# Altium schematic symbol library Project_Vega.SchLib: 63 symbols (part 1 of 2)
Pins are listed as number, name and electrical type; pins without a type are passive.

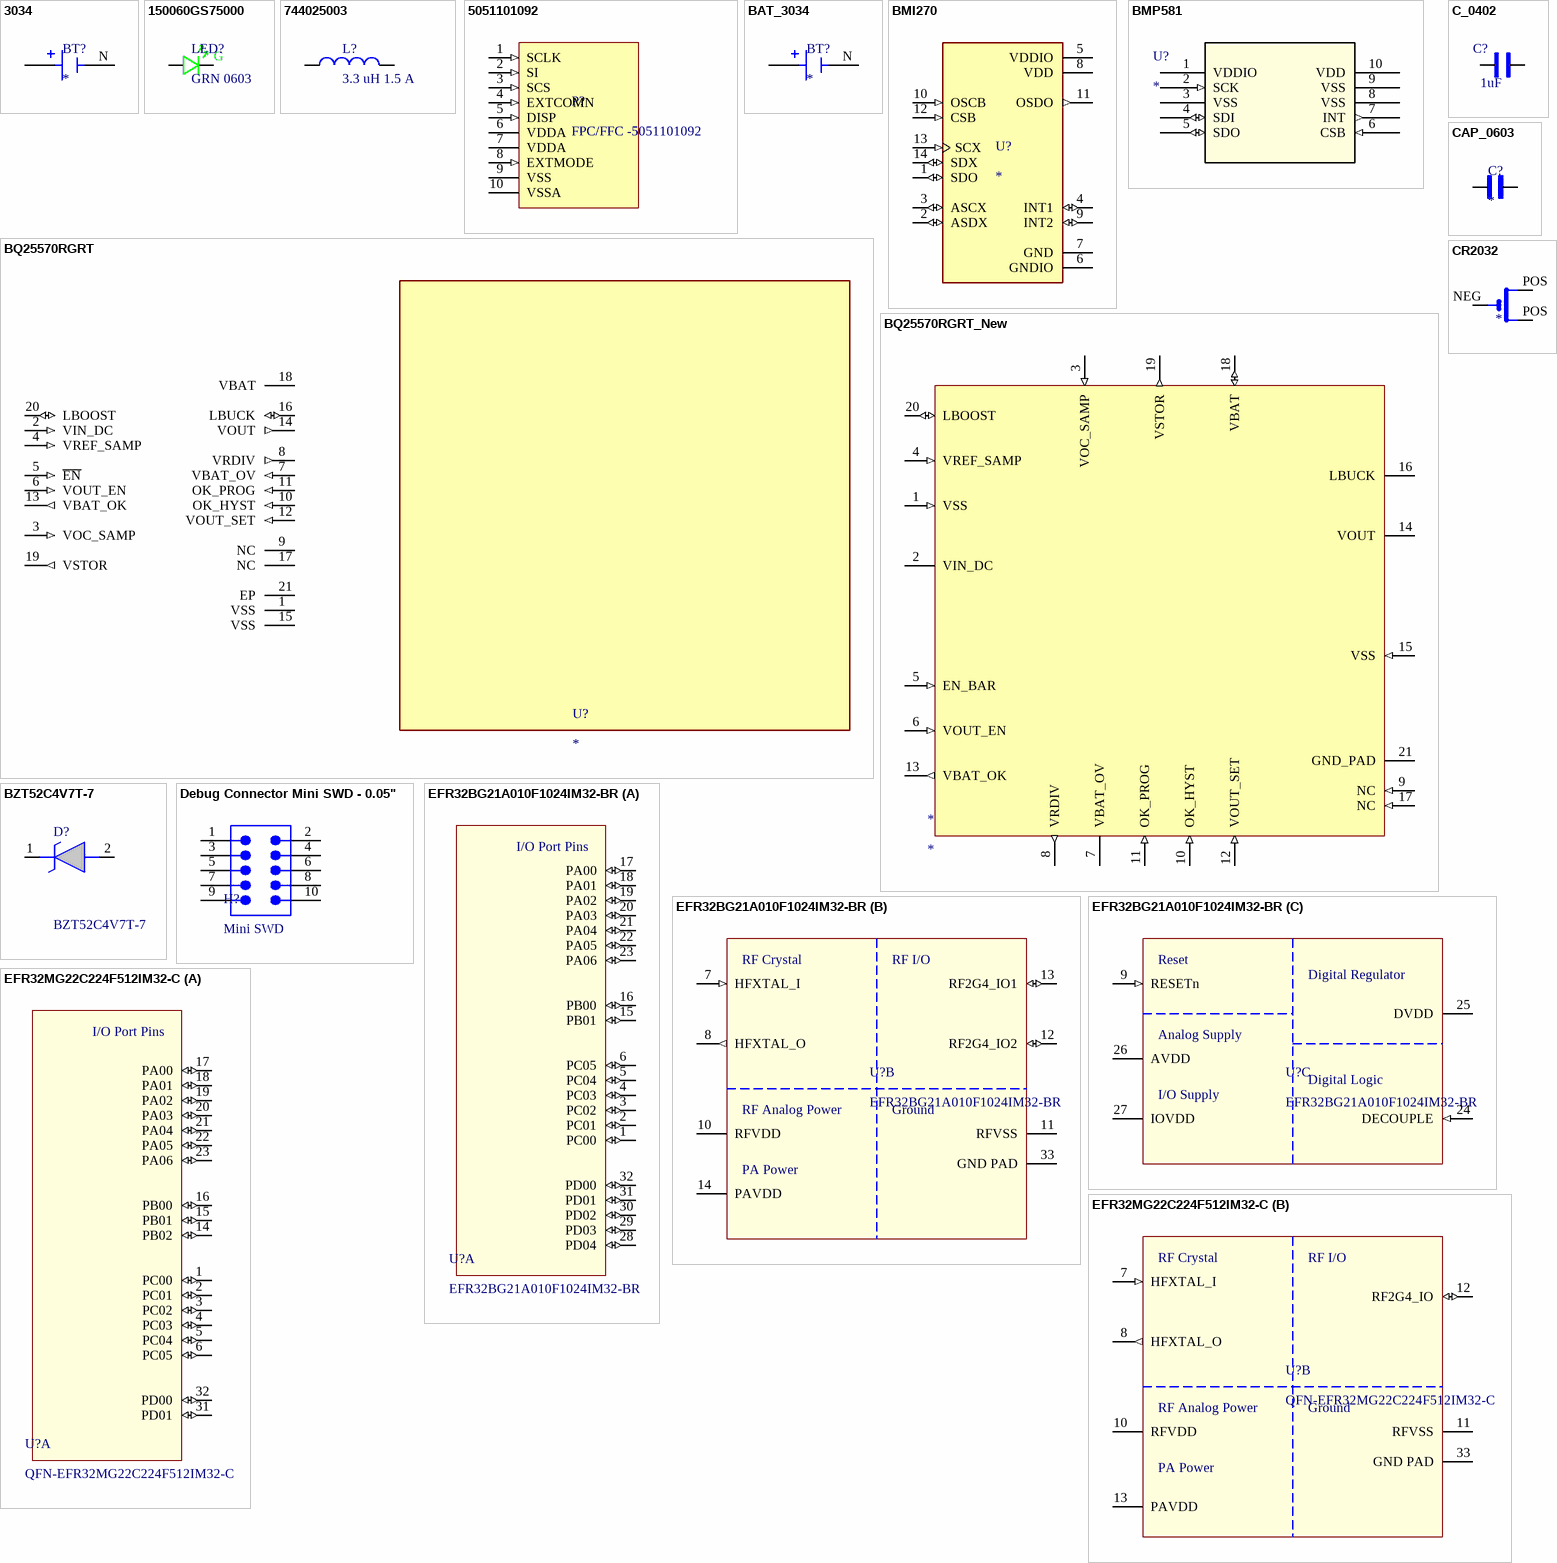
[diagram p0: symbols 3034 to EFR32MG22C224F512IM32-C]

## 3034
designator BT?
SMT Holder for 20mm Cell-Tin Nickel Plate; MP: 3034; MF: Keystone Electronics Corp.; SnapEDA_Link: https://www.snapeda.com/parts/3034/Keystone+Electronics/view-part/?ref=snap; Price: None; Check_prices: https://www.snapeda.com/parts/3034/Keystone+Electronics/view-part/?ref=eda; Availability: Not in stock; Value: *; Package: None
footprint BAT_3034
pins: N NEG, P1 POS, P1 POS

## 150060GS75000
designator LED?, comment GRN 0603
LED, 0603, GREEN, 430MCD, 520NM; Manufacturer: Wurth Electronics; Manufacturer Part Number: 150060GS75000; Dynamic Catalog: 0603 Rectangle with Flat Top Chip LEDs; 3D Model: SMCW_0603.igs / SMCW_0603.stp / SMCW_0603.wrl; Wavelength - Peak: 515nm; Voltage - Forward (Vf) (Typ): 3.2V; Current - Test: 20mA; Viewing Angle: 140°; Lens Type: Clear; Lens Style/Size: Rectangle with Flat Top, 1.1mm x 0.7mm; Other Names: 732-4971-2; Supplier 1: Digi-Key; Stock 1: 34964; Pricing 1: 1=0.14, 50=0.129, 100=0.11, 500=0.095 (USD); Standard Package: 4,000; Category: Optoelectronics; Family: LED Indication - Discrete; Series: WL-SMCW; Packaging: Tape & Reel (TR); Color: Green; Wavelength - Dominant: 520nm; Millicandela Rating: 430mcd; Package / Case: 0603 (1608 Metric); Size / Dimension: 1.60mm L x 0.80mm W; Height: 0.70mm; Mounting Type: Surface Mount; Online Catalog: 0603 Rectangle with Flat Top Chip LEDs; ComponentLink1URL: https://katalog.we-online.de/led/datasheet/150060GS75000.pdf?src-supplier=Digi-Key; ComponentLink1Description: https://katalog.we-online.de/led/datasheet/150060GS75000.pdf?src-supplier=Digi-Key; ComponentLink2URL: http://www.produktinfo.conrad.com/datenblaetter/750000-774999/759427-da-01-en-CHIPLED_0603_W_KL_GRUEN_150060GS75000.pdf?src-supplier=Conrad; ComponentLink2Description: http://www.produktinfo.conrad.com/datenblaetter/750000-774999/759427-da-01-en-CHIPLED_0603_W_KL_GRUEN_150060GS75000.pdf?src-supplier=Conrad; Supplier Part Number 1: 732-4971-1-ND
footprint LED_0603_GRN_WL-SMCW (SODFL, 2-Leads, Body 0.80x1.80mm, IPC Medium Density)
pins: A, C
text: G

## 744025003
designator L?, comment 3.3 uH 1.5 A
Power Choke Shielded Wirewound 3.3uH 20% 100KHz Ferrite 1.5A 101mOhm DCR T/R; Manufacturer: Wurth Electronics; Manufacturer Part Number: 744025003; Saturation Current: 1.8A; Self Resonant Frequency: 100MHz; DC Resistance (DCR): 101mR; ESR: 85MR; Supplier: Digikey; Supplier Part Number: 732-2614-1-ND; RoHS: Yes; Category: Fixed Inductors; Stock: 3837; Pricing: 1=1.64, 10=1.578, 50=1.45, 100=1.205, 250=1.088, 550=0.885, 1100=0.767 (USD); Mounting Technology: Surface Mount; Case/Package: 2828; Pins: 2; Core Material: Ferrite; Min Operating Temperature: -40°C; Max Operating Temperature: 125°C; Package Quantity: 1; Packaging: Cut Tape; Series: WE-TPC; Tolerance: 20%; Current Rating: 1.5A; Shielding: Shielded; Inductance Tolerance: 20%; Value: 3.3uH; Test Frequency: 100kHz; Max DC Current: 1.5A; Termination: SMD/SMT; RMS Current (Irms): 1.5A; Length: 2.8mm; Width: 2.8mm; Height: 2.8mm; Height - Seated (Max): 0.118inch; Depth: 2.8mm; RoHS Compliant: Yes; Reach SVHC Compliant: Unknown; ComponentLink1URL: https://datasheet.ciiva.com/1060/744025003-1060566.pdf?src-supplier=Digikey; ComponentLink1Description: https://datasheet.ciiva.com/1060/744025003-1060566.pdf?src-supplier=Digikey; ComponentLink2URL: https://datasheet.ciiva.com/4954/744025003-88791-4954796.pdf?src-supplier=Mouser; ComponentLink2Description: https://datasheet.ciiva.com/4954/744025003-88791-4954796.pdf?src-supplier=Mouser; ComponentLink3URL: https://datasheet.ciiva.com/11803/0900766b80f886b5-11803594.pdf?src-supplier=Rs; ComponentLink3Description: https://datasheet.ciiva.com/11803/0900766b80f886b5-11803594.pdf?src-supplier=Rs; ComponentLink4URL: https://datasheet.ciiva.com/1060/744025003-1060567.pdf?src-supplier=Digikey; ComponentLink4Description: https://datasheet.ciiva.com/1060/744025003-1060567.pdf?src-supplier=Digikey; ComponentLink5URL: https://datasheet.ciiva.com/1060/744025003-1060568.pdf?src-supplier=Digikey; ComponentLink5Description: https://datasheet.ciiva.com/1060/744025003-1060568.pdf?src-supplier=Digikey; ComponentLink6URL: https://datasheet.ciiva.com/14123/744025003-eng-tds-14123829.pdf?src-supplier=Distrelec; ComponentLink6Description: https://datasheet.ciiva.com/14123/744025003-eng-tds-14123829.pdf?src-supplier=Distrelec
footprint IND_2828x30 (Precision Wire Wound Inductor, 2-Leads, Body 2.80x2.80mm, IPC Medium Density)
pins: 1, 2

## 5051101092
designator P?, comment FPC/FFC -5051101092
Easy-On FFC/FPC Connector, 0.50mm Pitch, FD19 Series, Right-Angle, Bottom Contact, 1.90mm Height, 10 Circuits, Gold over Nickel Plating; Manufacturer: Molex; Manufacturer Part Number: 505110-1092; Actuator Material: Nylon,Glass,Polyamide; Actuator Color: Black; Number of Positions: 10; Voltage Rating: 50V; Gender: Receptacle; Mating Cycles: 25; Supplier: Digikey; Supplier Part Number: WM12366CT-ND; RoHS: Yes; Category: FFC / FPC; Stock: 64732; Pricing: 1=0.73, 10=0.545, 25=0.4884, 50=0.4514, 100=0.4185, 250=0.3808, 500=0.35616, 1000=0.33441, 3000=0.3051, 6000=0.28943, 9000=0.28114, 15000=0.27155, 21000=0.26571, 30000=0.26151 (USD); Mounting Technology: Surface Mount; Pins: 10; Contact Material: Bronze; Contact Plating: Gold; Housing Material: Polymer; Housing Color: Beige; Plating: Gold; Min Operating Temperature: -40°C; Max Operating Temperature: 105°C; Packaging: Cut Tape; Termination: Solder; Number of Rows: 1; Series: Easy-On FD19 505110; Number of Circuits: 10; Number of Contacts: 10; Orientation: Right Angle; Height: 4.15mm; Flammability Rating: UL94 V-0; RoHS Compliant: Yes; Reach SVHC Compliant: Unknown; ComponentLink1URL: http://www.farnell.com/datasheets/2215713.pdf?src-supplier=Farnell; ComponentLink1Description: http://www.farnell.com/datasheets/2215713.pdf?src-supplier=Farnell; ComponentLink2URL: https://media.digikey.com/pdf/Data%20Sheets/Molex%20PDFs/FFC-FPC_Connectors.pdf?src-supplier=Digikey; ComponentLink2Description: https://media.digikey.com/pdf/Data%20Sheets/Molex%20PDFs/FFC-FPC_Connectors.pdf?src-supplier=Digikey; ComponentLink3URL: https://www.mouser.com/ds/2/276/5051101092_FFC_FPC_CONNECTORS-772849.pdf?src-supplier=Mouser; ComponentLink3Description: https://www.mouser.com/ds/2/276/5051101092_FFC_FPC_CONNECTORS-772849.pdf?src-supplier=Mouser; ComponentLink4URL: http://www.alliedelec.com/m/d/498d8ef60ec1840486550b3bb04c7a47.pdf?src-supplier=Allied+Electronics; ComponentLink4Description: http://www.alliedelec.com/m/d/498d8ef60ec1840486550b3bb04c7a47.pdf?src-supplier=Allied+Electronics; ComponentLink5URL: https://www.molex.com/datasheets/rohspdf/5051101092_rohs.pdf?src-supplier=Digikey; ComponentLink5Description: https://www.molex.com/datasheets/rohspdf/5051101092_rohs.pdf?src-supplier=Digikey; ComponentLink6URL: https://datasheet.octopart.com/505110-1092-Molex-datasheet-62088043.pdf?src-supplier=Farnell; ComponentLink6Description: https://datasheet.octopart.com/505110-1092-Molex-datasheet-62088043.pdf?src-supplier=Farnell; ComponentLink7URL: http://www.farnell.com/datasheets/2014276.pdf?src-supplier=Element14; ComponentLink7Description: http://www.farnell.com/datasheets/2014276.pdf?src-supplier=Element14; ComponentLink8URL: http://www.farnell.com/datasheets/2215713.pdf?src-supplier=Element14; ComponentLink8Description: http://www.farnell.com/datasheets/2215713.pdf?src-supplier=Element14; ComponentLink9URL: https://datasheet.octopart.com/505110-1092-Molex-datasheet-77521069.pdf?src-supplier=Element14; ComponentLink9Description: https://datasheet.octopart.com/505110-1092-Molex-datasheet-77521069.pdf?src-supplier=Element14; ComponentLink10URL: http://www.farnell.com/datasheets/2215713.pdf?src-supplier=Newark; ComponentLink10Description: http://www.farnell.com/datasheets/2215713.pdf?src-supplier=Newark
footprint CON_5051101092_MOL
pins: 1 SCLK (in) "Serial clock signal", 2 SI (in) "Serial input signal", 3 SCS (in) "Chip select signal", 4 EXTCOMN (in) "External COM inversion signal input (H: Active)", 5 DISP (in) "Display ON/OFF signal", 6 VDDA (power) "Analog power supply", 7 VDDA (power) "Digital power supply", 8 EXTMODE (in) "COM inversion mode switch terminal", 9 VSS (power) "Logic GND", 10 VSSA (power) "Analog GND"

## BAT_3034
designator BT?
SMT Holder for 20mm Cell-Tin Nickel Plate; MP: 3034; MF: Keystone Electronics Corp.; SnapEDA_Link: https://www.snapeda.com/parts/3034/Keystone+Electronics/view-part/?ref=snap; Price: None; Check_prices: https://www.snapeda.com/parts/3034/Keystone+Electronics/view-part/?ref=eda; Availability: Not in stock; Value: *; Package: None; Supplier 1: Digikey; Supplier Part Number 1: 36-3034-ND
footprint BAT_3034
pins: N NEG, P1 POS, P2 POS

## BMI270
designator U?
Inertial Measurement Unit Digital Output 1.8V/2.5V/3.3V Automotive 14-Pin LGA; Manufacturer: Bosch Tools; MP: BMI270; MF: Bosch Sensortec; Digi-Key_Part_Number: 828-1091-2-ND; Check_prices: https://www.snapeda.com/parts/BMI270/Bosch+Sensortec/view-part/?ref=eda; Package: LGA-14 Bosch Sensortec; SnapEDA_Link: https://www.snapeda.com/parts/BMI270/Bosch+Sensortec/view-part/?ref=snap; Value: *; Purchase-URL: https://pricing.snapeda.com/search/part/BMI270/?ref=eda; Supplier 1: Digikey; Supplier Part Number 1: 828-1091-1-ND; Supplier: Digikey; Supplier Part Number: 828-1091-1-ND; Manufacturer Part Number: BMI270; RoHS: No; Category: Linear ICs; Stock: 1732; Pricing: 1=5.88, 10=4.409, 25=3.9188, 50=3.7228, 100=3.6249, 500=3.03708, 1000=2.84113, 5000=2.425 (USD)
footprint XDCR_BMI270
pins: 1 SDO (io), 2 ASDX (io), 3 ASCX (io), 4 INT1 (io), 5 VDDIO (power), 6 GNDIO (power), 7 GND (power), 8 VDD (power), 9 INT2 (io), 10 OSCB (in), 11 OSDO (out), 12 CSB (in), 13 SCX (in), 14 SDX (io)

## BMP581
designator U?
Board Mount Pressure Sensor 30kPa to 125kPa Barometric 10-Pin LGA; Mfr_Name: Bosch Sensortec; Manufacturer: Bosch Tools; Manufacturer Part Number: BMP581; RefDes: RefDes; Type: Type; Supplier 1: Digikey; Supplier Part Number 1: 828-BMP581CT-ND; Supplier: Digikey; Supplier Part Number: 828-BMP581CT-ND; RoHS: No; Category: Linear ICs; Stock: 8763; Pricing: 1=4.13, 5=3.478, 10=3.231, 25=2.9324, 50=2.7248, 100=2.5322, 500=2.13606, 1000=1.98529, 5000=1.7, 10000=1.7 (USD)
footprint QFN10_BMP581_BOS-M
pins: 1 VDDIO (power), 2 SCK (in), 3 VSS (power), 4 SDI (io), 5 SDO (io), 6 CSB (in), 7 INT (out), 8 VSS (power), 9 VSS (power), 10 VDD (power)

## BQ25570RGRT
designator U?
Ultra Low power Harvester power Management IC with boost charger, and Nanopower Buck Converter 20-VQFN -40 to 125; MP: BQ25570RGRT; MF: Texas Instruments; Availability: Warning; SnapEDA_Link: https://www.snapeda.com/parts/BQ25570RGRT/Texas%20Instruments/view-part/49255/?ref=snap; Value: *; Price: None; Package: VQFN-20 Texas Instruments; Purchase-URL: https://pricing.snapeda.com/search/part/BQ25570RGRT/?ref=eda; Check_prices: https://www.snapeda.com/parts/BQ25570RGRT/Texas%20Instruments/view-part/49255/?ref=eda
footprint QFN50P350X350X100-21N - duplicate
pins: 1 VSS (power), 2 VIN_DC (in), 3 VOC_SAMP (in), 4 VREF_SAMP (in), 5 ~{EN} (in), 6 VOUT_EN (in), 7 VBAT_OV (in), 8 VRDIV (out), 9 NC, 10 OK_HYST (in), 11 OK_PROG (in), 12 VOUT_SET (in), 13 VBAT_OK (out), 14 VOUT (out), 15 VSS (power), 16 LBUCK (io), 17 NC, 18 VBAT (power), 19 VSTOR (out), 20 LBOOST (io), 21 EP

## BQ25570RGRT_New
designator *
Switching Battery Charger Li-Ion/Li-Pol/Supercapacitor 110mA 2.2V to 5.5V 20-Pin VQFN EP T/R; Manufacturer: Texas Instruments; Manufacturer Part Number: BQ25570RGRT; Output Current: 100mA; Operating Supply Current: 488nA; Min Supply Voltage: 100mV; Max Supply Voltage: 5.1V; Switching Frequency: 1MHz; Supplier: Digikey; Supplier Part Number: 296-37014-1-ND; RoHS: Yes; Category: Battery Management; Stock: 646; Pricing: 1=9.11, 10=6.836, 25=6.2676, 100=5.6427 (USD); Mounting Technology: Surface Mount; Case/Package: VQFN; Pins: 20; Contact Plating: Gold; Min Operating Temperature: -40°C; Max Operating Temperature: 125°C; Packaging: Tape and Reel; Package Quantity: 250; Series: -; Radiation Hardening: No; Reach SVHC Compliant: No; Lead Free: Lead Free; RoHS Compliant: Yes; ComponentLink1URL: https://datasheet.ciiva.com/28483/1768287-28483478.pdf?src-supplier=Element14; ComponentLink1Description: https://datasheet.ciiva.com/28483/1768287-28483478.pdf?src-supplier=Element14; ComponentLink2URL: https://datasheet.ciiva.com/24110/slusbh2c-317150-24110945.pdf?src-supplier=Mouser; ComponentLink2Description: https://datasheet.ciiva.com/24110/slusbh2c-317150-24110945.pdf?src-supplier=Mouser; ComponentLink3URL: https://datasheet.ciiva.com/29590/bq25570-29590197.pdf?src-supplier=Digikey; ComponentLink3Description: https://datasheet.ciiva.com/29590/bq25570-29590197.pdf?src-supplier=Digikey; ComponentLink4URL: https://datasheet.ciiva.com/29590/bq25570-29590198.pdf?src-supplier=Digikey; ComponentLink4Description: https://datasheet.ciiva.com/29590/bq25570-29590198.pdf?src-supplier=Digikey; ComponentLink5URL: https://datasheet.ciiva.com/29892/bq25570-29892856.pdf?src-supplier=Avnet; ComponentLink5Description: https://datasheet.ciiva.com/29892/bq25570-29892856.pdf?src-supplier=Avnet; ComponentLink6URL: https://datasheet.ciiva.com/29892/bq25570-29892857.pdf?src-supplier=Avnet; ComponentLink6Description: https://datasheet.ciiva.com/29892/bq25570-29892857.pdf?src-supplier=Avnet
footprint QFN50P350X350X100-21N - duplicate
pins: 1 VSS (in) "Power ground for the boost charger.", 2 VIN_DC (power) "DC voltage input from energy harvesting source", 3 VOC_SAMP (in) "Sampling pin for MPPT network", 4 VREF_SAMP (in) "Connect a 0.01-µF low-leakage capacitor from this pin to GND to store the voltage to which VIN_DC will be regulated. This voltage is provided by the MPPT sample circuit", 5 EN_BAR (in) "Active low digital programming input for enabling/disabling the IC. Connect to GND to enable the IC", 6 VOUT_EN (in) "Active high digital programming input for enabling/disabling the buck converter", 7 VBAT_OV (power) "Connect to the mid-point of external resistor divider between VRDIV and GND for setting the VBAT overvoltage threshold.", 8 VRDIV (out) "Connect high side of resistor divider networks to this biasing voltage", 9 NC (in) "Connect to ground using the IC's PowerPAD™", 10 OK_HYST (in) "Connect to the mid-point of external resistor divider between VRDIV and GND for setting the VBAT_OK hystersis threshold. If not used, connect this pin to GND.", 11 OK_PROG (in) "Connect to the mid-point of external resistor divider between VRDIV and GND for setting the VBAT_OK threshold. If not used, connect this pin to GND.", 12 VOUT_SET (in) "Connect to the mid-point of external resistor divider between VRDIV and GND for setting the VOUT regulation set point.", 13 VBAT_OK (out) "Connect to the mid-point of external resistor divider between VRDIV and GND for setting the VBAT overvoltage threshold.", 14 VOUT (power) "Buck converter output.", 15 VSS (in) "Power ground for the buck converter and analog/signal ground for the resistor", 16 LBUCK (power) "Inductor connection for the buck converter switching node.", 17 NC (in) "Connect to ground using the IC's PowerPAD", 18 VBAT (io) "Connect a rechargeable storage element with at least 100uF of equivalent capacitance between this pin and either VSS pin.", 19 VSTOR (out) "Connection for the output of the boost charger", 20 LBOOST (io) "Inductor connection for the boost charger switching node", 21 GND_PAD (power) "GND PAD"

## BZT52C4V7T-7
designator D?
Diode Zener Single 4.7V 6% 300mW 2-Pin SOD-523 T/R; Manufacturer_Name: Diodes Incorporated; Manufacturer: Diodes; Geometry.Height: 0.65mm; Impedance: 80R; Max Reverse Leakage Current: 3uA; Zener Current: 5mA; ESD Protection: No; Mouser Part Number: 621-BZT52C4V7T-7; Mouser Price/Stock: https://www.mouser.co.uk/ProductDetail/Diodes-Incorporated/BZT52C4V7T-7?qs=zLeapIUCO8SroLebLeUNYA%3D%3D; Manufacturer_Part_Number: BZT52C4V7T-7; Datasheet Link: https://www.diodes.com//assets/Datasheets/ds30502.pdf; Supplier: Digikey; Supplier Part Number: BZT52C4V7T-7DICT-ND; Manufacturer Part Number: BZT52C4V7T-7; RoHS: Yes; Category: Zener Diodes; Stock: 25726; Pricing: 1=0.12, 10=0.08, 100=0.0538, 500=0.0408, 1000=0.03639 (USD); Mounting Technology: Surface Mount; Pins: 2; Weight: 3.5E-05oz; Contact Plating: Tin,Matte; Min Operating Temperature: -65°C; Max Operating Temperature: 150°C; Packaging: Tape and Reel; Package Quantity: 3000; Tolerance: 6%; Max Power Dissipation: 300mW; Zener Voltage: 4.7V; Power Dissipation: 300mW; Voltage Tolerance: 6%; Test Current: 5mA; Termination: SMD/SMT; Max Reverse Current: 3uA; Power Rating: 300mW; Series: -; Length: 1.3mm; Width: 0.9mm; Height: 0.7mm; RoHS Compliant: Yes; ComponentLink1URL: https://datasheet.ciiva.com/25623/0900766b8104c33b-25623740.pdf?src-supplier=Rs; ComponentLink1Description: https://datasheet.ciiva.com/25623/0900766b8104c33b-25623740.pdf?src-supplier=Rs; ComponentLink2URL: https://datasheet.ciiva.com/4734/ds30502-85251-4734173.pdf?src-supplier=Mouser; ComponentLink2Description: https://datasheet.ciiva.com/4734/ds30502-85251-4734173.pdf?src-supplier=Mouser
footprint SOD3715X135N
pins: 1 K, 2 A

## C_0402
designator C?, comment 1uF
MULTILAYER CERAMIC CAPACITORS MLCC - SMD/SMT 1UF 25V 0402 ROHS; MFR Part #: CL05A105KA5NQNC; Type: Basic; Datasheet: https://datasheet.lcsc.com/szlcsc/Samsung-Electro-Mechanics-CL05A105KA5NQNC_C52923.pdf; LCSC Part#: C52923; Value: 1uF
footprint 0402_Passive_Capacitor (Reference: https://www.worthingtonassembly.com/perfect-0402-footprint)
pins: 1, 2

## CAP_0603
designator C?
Ceramic Capacitor 0603; MF: Yageo; MP: CC0603KRX7R9BB104; SnapEDA_Link: https://www.snapeda.com/parts/CC0603KRX7R9BB104/Yageo/view-part/?ref=snap; Package: 0603 Yageo; Value: *; Check_prices: https://www.snapeda.com/parts/CC0603KRX7R9BB104/Yageo/view-part/?ref=eda
footprint CAP_0603 (Ceramic Capacitor 0603)
pins: 1, 2

## CR2032
designator ?
Coin, 20.0mm Lithium Manganese Dioxide 3V Battery Non-Rechargeable _Primary_; MF: FDK America,; MP: CR2032; Availability: Unavailable; Price: None; Package: FDK; Value: *; SnapEDA_Link: https://www.snapeda.com/parts/CR2032/FDK%20America%2C%20Inc.%2C%20a%20member%20of%20Fujitsu%20Group/view-part/1775317/?ref=snap
footprint CR2032-SMD
footprint CR2032-THRU
pins: NEG, POS, POS

## Debug Connector Mini SWD - 0.05"
designator H?, comment Mini SWD
Mini SWD 0.05 Pitch Connector - 10 Pin SMT Box Header | Adafruit Industries 4048; Manufacturer Part Number: 4048; Number of Positions: 10; Supplier 1: Digi-Key; Manufacturer: Adafruit Industries; RoHS: No; Category: Connectors; Stock 1: 201; Pricing 1: 1=1.95000 (USD); ComponentLink1URL: https://media.digikey.com/pdf/Data%20Sheets/Adafruit%20PDFs/4048_Web.pdf?src-supplier=Digi-Key; ComponentLink1Description: https://media.digikey.com/pdf/Data%20Sheets/Adafruit%20PDFs/4048_Web.pdf?src-supplier=Digi-Key; Supplier: Digikey; Supplier Part Number: 1528-2827-ND; Stock: 198; Pricing: 1=1.95 (USD); Mounting Technology: Surface Mount; Contact Shape: Square; Contact Finish - Mating: -; Connector Type: Header; Fastening Type: Pull; Series: -; Contact Type: Male Pin; Number of Rows: 2; Termination: Solder; ComponentLink2URL: https://media.digikey.com/pdf/Data%20Sheets/Adafruit%20PDFs/4048_Web.pdf?src-supplier=Digikey; ComponentLink2Description: https://media.digikey.com/pdf/Data%20Sheets/Adafruit%20PDFs/4048_Web.pdf?src-supplier=Digikey
footprint FTSH-105-01-XXX-DV-K
pins: 1, 2, 3, 4, 5, 6, 7, 8, 9, 10

## EFR32BG21A010F1024IM32-BR
designator U?  (no BOM)
Blue Gecko, QFN32, 2.4G, 10dB, Bluetooth 5.1, 1024kB, 96kB(RAM), 20 GPIO; Manufacturer: Silicon Labs; Supplier: Digikey; Supplier Part Number: 336-5869-1-ND; Manufacturer Part Number: EFR32BG21A010F1024IM32-BR; RoHS: No; Category: RF Receivers, Transceivers; Stock: 38892; Pricing: 1=4.27, 10=3.816, 25=3.4348, 100=3.1293, 250=2.82404, 500=2.6875 (USD); ComponentLink1URL: https://www.silabs.com/documents/login/data-sheets/efr32bg21-datasheet.pdf?src-supplier=Digikey; ComponentLink1Description: https://www.silabs.com/documents/login/data-sheets/efr32bg21-datasheet.pdf?src-supplier=Digikey; ComponentLink2URL: https://datasheet.octopart.com/EFR32BG21A010F1024IM32-BR-Silicon-Labs-datasheet-142046433.pdf?src-supplier=Arrow.cn; ComponentLink2Description: https://datasheet.octopart.com/EFR32BG21A010F1024IM32-BR-Silicon-Labs-datasheet-142046433.pdf?src-supplier=Arrow.cn
footprint QFN32-EFR32xG2xIM32-BR (QFN, 32-Leads, Body 4.00x4.00mm, Pitch 0.40mm, Thermal Pad 2.80x2.80mm, IPC Medium Density)
part A pins: 1 PC00 (io) "GPIO", 2 PC01 (io) "GPIO", 3 PC02 (io) "GPIO", 4 PC03 (io) "GPIO", 5 PC04 (io) "GPIO", 6 PC05 (io) "GPIO", 15 PB01 (io) "GPIO", 16 PB00 (io) "GPIO", 17 PA00 (io) "GPIO", 18 PA01 (io) "GPIO", 19 PA02 (io) "GPIO", 20 PA03 (io) "GPIO", 21 PA04 (io) "GPIO", 22 PA05 (io) "GPIO", 23 PA06 (io) "GPIO", 28 PD04 (io) "GPIO", 29 PD03 (io) "GPIO", 30 PD02 (io) "GPIO", 31 PD01 (io) "GPIO", 32 PD00 (io) "GPIO"
part B pins: 7 HFXTAL_I (in) "High Frequency Crystal Input", 8 HFXTAL_O (out) "High Frequency Crystal Output", 10 RFVDD (power) "Radio power supply", 11 RFVSS (power) "Radio Ground", 12 RF2G4_IO2 (io) "2.4 GHz RF input/output", 13 RF2G4_IO1 (io) "2.4 GHz RF input/output", 14 PAVDD (power) "Power Amplifier (PA) power supply", 33 GND PAD (power) "Radio Ground"
part C pins: 9 RESETn (in) "Reset Pin", 24 DECOUPLE (in) "Decouple output for on-chip voltage regulator. An external decoupling capacitor is required at this pin.", 25 DVDD (power) "Digital power supply", 26 AVDD (power) "Analog power supply", 27 IOVDD (power) "Digital IO power supply"
part A text: I/O Port Pins
part B text: RF Crystal; RF I/O; RF Analog Power; Ground; PA Power
part C text: Reset; Digital Regulator; Analog Supply; Digital Logic; I/O Supply

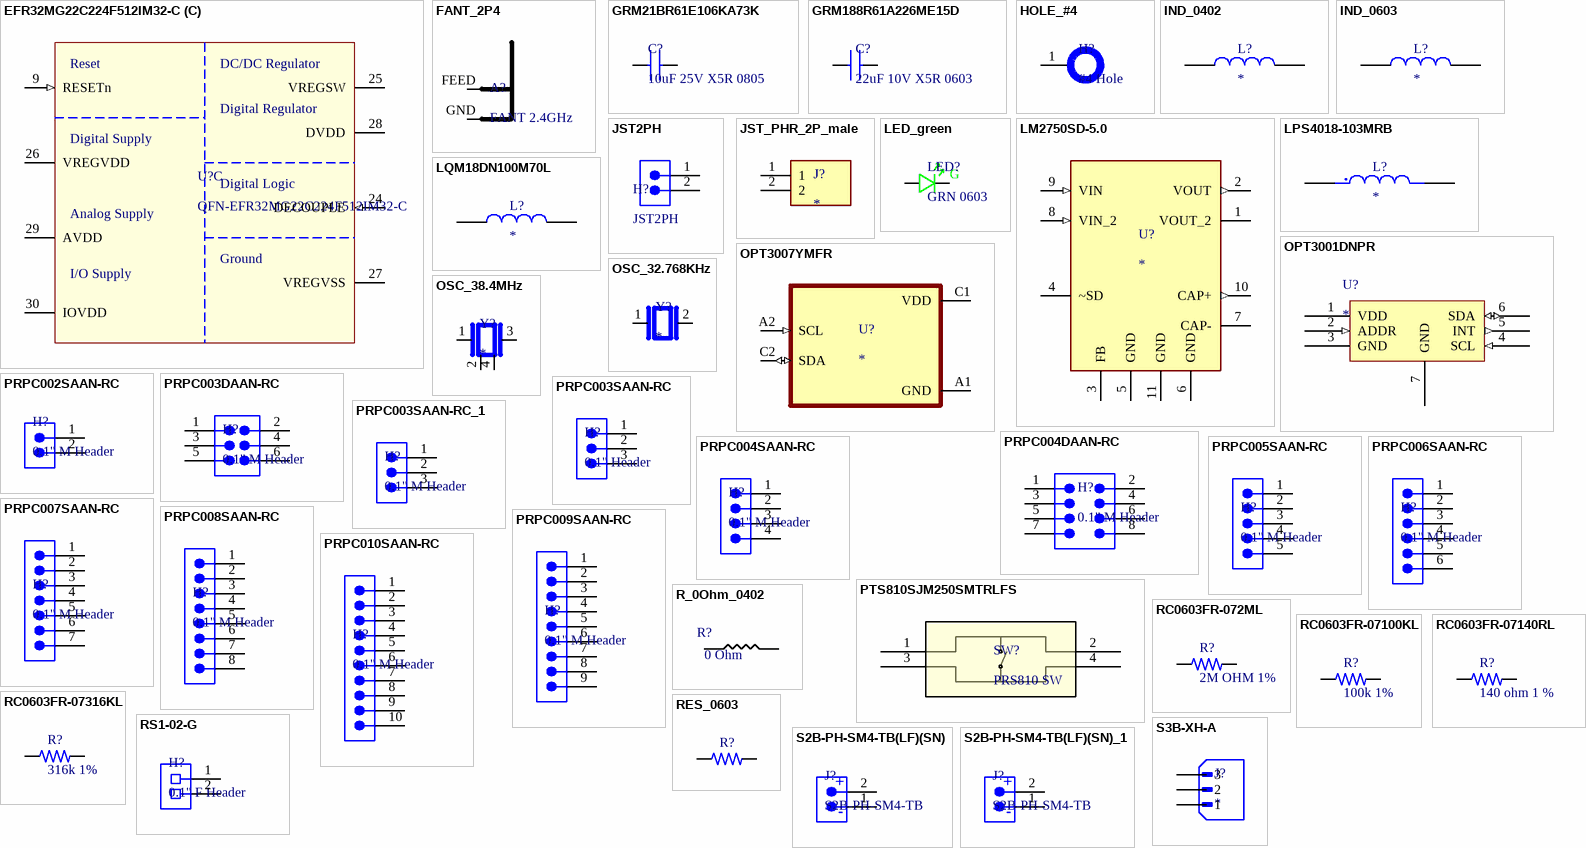
[diagram p1: symbols EFR32MG22C224F512IM32-C to S3B-XH-A]

## EFR32MG22C224F512IM32-C
designator U?, comment QFN-EFR32MG22C224F512IM32-C
Mighty Gecko, QFN32, 2.4G, 6dB, Mesh, 512kB, 32kB(RAM), 18 GPIO; Manufacturer: Silicon Labs; Supplier: Digikey; Supplier Part Number: 336-EFR32MG22C224F512IM32-C-ND; Manufacturer Part Number: EFR32MG22C224F512IM32-C; RoHS: No; Category: RF Receivers, Transceivers; Stock: 1733; Pricing: 1=3, 10=2.68, 25=2.4124, 80=2.19775, 230=1.98339, 490=1.88751 (USD); Series: -; RoHS Compliant: Yes; ComponentLink1URL: https://media.digikey.com/pdf/Data%20Sheets/Silicon%20Laboratories%20PDFs/EFR32MG22C224F512_DS.pdf?src-supplier=Digikey; ComponentLink1Description: https://media.digikey.com/pdf/Data%20Sheets/Silicon%20Laboratories%20PDFs/EFR32MG22C224F512_DS.pdf?src-supplier=Digikey
footprint QFN32-EFR32xG2xIM32-BR (QFN, 32-Leads, Body 4.00x4.00mm, Pitch 0.40mm, Thermal Pad 2.80x2.80mm, IPC Medium Density)
part A pins: 1 PC00 (io) "GPIO", 2 PC01 (io) "GPIO", 3 PC02 (io) "GPIO", 4 PC03 (io) "GPIO", 5 PC04 (io) "GPIO", 6 PC05 (io) "GPIO", 14 PB02 (io) "GPIO", 15 PB01 (io) "GPIO", 16 PB00 (io) "GPIO", 17 PA00 (io) "GPIO", 18 PA01 (io) "GPIO", 19 PA02 (io) "GPIO", 20 PA03 (io) "GPIO", 21 PA04 (io) "GPIO", 22 PA05 (io) "GPIO", 23 PA06 (io) "GPIO", 31 PD01 (io) "GPIO", 32 PD00 (io) "GPIO"
part B pins: 7 HFXTAL_I (in) "High Frequency Crystal Input", 8 HFXTAL_O (out) "High Frequency Crystal Output", 10 RFVDD (power) "Radio power supply", 11 RFVSS (power) "Radio Ground", 12 RF2G4_IO (io) "2.4 GHz RF input/output", 13 PAVDD (power) "Power Amplifier (PA) power supply", 33 GND PAD (power) "Radio Ground"
part C pins: 9 RESETn (in) "Reset Pin", 24 DECOUPLE (in) "Decouple output for on-chip voltage regulator. An external decoupling capacitor is required at this pin.", 25 VREGSW (power) "DCDC regulator input supply", 26 VREGVDD (power) "Analog power supply", 27 VREGVSS (power) "DCDC ground", 28 DVDD (power) "Digital power supply", 29 AVDD  (power) "Analog power supply", 30 IOVDD (power) "I/O power supply"
part A text: I/O Port Pins
part B text: RF Crystal; RF I/O; RF Analog Power; Ground; PA Power
part C text: Reset; DC/DC Regulator; Digital Regulator; Digital Supply; Digital Logic; Analog Supply; Ground; I/O Supply

## FANT_2P4
designator A?, comment FANT 2.4GHz
Inverted F antenna
footprint FANT_2P4
pins: FEED 6, GND 6

## GRM21BR61E106KA73K
designator C?, comment 10uF 25V X5R 0805
Multilayer Ceramic Capacitor, 10 uF, 25 V, +/- 10%, X5R, 0805 [2012 Metric]; Manufacturer: Murata; Manufacturer Part Number: GRM21BR61E106KA73K; Supplier: Digikey; Supplier Part Number: 490-16824-1-ND; RoHS: Yes; Category: Ceramic Capacitors; Stock: 274241; Pricing: 1=0.21, 10=0.133, 50=0.0838, 100=0.0671, 500=0.04848, 1000=0.04288, 2500=0.04102, 5000=0.03729, 10000=0.03542, 20000=0.03356, 30000=0.03169, 50000=0.02983, 100000=0.02517, 250000=0.0233 (USD); Mounting Technology: Surface Mount; Case/Package: 0805; Weight: 0.000335oz; Case Code (Imperial): 0805; Case Code (Metric): 2012; Material: Ceramic; Min Operating Temperature: -55°C; Max Operating Temperature: 85°C; Packaging: Tape and Reel; Value: 10uF; Voltage Rating: 25V; Tolerance: 10%; Package Quantity: 10000; Dielectric: X5R; Voltage Rating (DC): 25V; Series: GRM; Length: 0.079inch; Width: 0.049inch; Height: 1.4mm; Thickness: 0.055inch; RoHS Compliant: Yes; ComponentLink1URL: http://www.mouser.com/ds/2/281/c02e-2905.pdf?src-supplier=Mouser; ComponentLink1Description: http://www.mouser.com/ds/2/281/c02e-2905.pdf?src-supplier=Mouser; ComponentLink2URL: http://search.murata.co.jp/Ceramy/image/img/A01X/G101/ENG/GRM21BR61E106KA73-01.pdf?src-supplier=Digikey; ComponentLink2Description: http://search.murata.co.jp/Ceramy/image/img/A01X/G101/ENG/GRM21BR61E106KA73-01.pdf?src-supplier=Digikey; ComponentLink3URL: https://search.murata.co.jp/Ceramy/image/img/A01X/G101/ENG/GRM21BR61E106KA73-01.pdf?src-supplier=Digikey; ComponentLink3Description: https://search.murata.co.jp/Ceramy/image/img/A01X/G101/ENG/GRM21BR61E106KA73-01.pdf?src-supplier=Digikey; ComponentLink4URL: https://datasheet.octopart.com/GRM21BR61E106KA73K-Murata-datasheet-149523495.pdf?src-supplier=Newark; ComponentLink4Description: https://datasheet.octopart.com/GRM21BR61E106KA73K-Murata-datasheet-149523495.pdf?src-supplier=Newark; ComponentLink5URL: https://datasheet.octopart.com/GRM21BR61E106KA73K-Murata-datasheet-99353849.pdf?src-supplier=Future+Electronics; ComponentLink5Description: https://datasheet.octopart.com/GRM21BR61E106KA73K-Murata-datasheet-99353849.pdf?src-supplier=Future+Electronics; ComponentLink6URL: https://datasheet.octopart.com/GRM21BR61E106KA73K-Murata-datasheet-165579666.pdf?src-supplier=TME; ComponentLink6Description: https://datasheet.octopart.com/GRM21BR61E106KA73K-Murata-datasheet-165579666.pdf?src-supplier=TME
footprint CAP_0805_2mmX1.25mm
pins: 1, 2

## GRM188R61A226ME15D
designator C?, comment 22uF 10V X5R 0603
CAP CER 22UF 10V X5R 0603; Manufacturer: Murata; Manufacturer Part Number: GRM188R61A226ME15D; Voltage Rating DC: 10 VDC; Tolerance: 20 %; Brand: Murata Electronics; Type: Voltage and Temperature Derating Recommended Product; Unit Weight: 0.000222 oz; Supplier 1: Digi-Key; Supplier Part Number 1: 490-10476-1-ND; Stock 1: 849458; Pricing 1: 1=0.33, 10=0.226, 50=0.1506, 100=0.1279, 500=0.0903, 1000=0.079 (USD); Product Category: Multilayer Ceramic Capacitors MLCC - SMD/SMT; RoHS: True; Capacitance: 22 uF; Dielectric: X5R; Case Code - in: 0603; Case Code - mm: 1608; Height: 0.8 mm; Maximum Operating Temperature: + 85 C; Minimum Operating Temperature: - 55 C; Product: General Type MLCCs; Series: GRM; Packaging: Reel; Length: 1.6 mm; Package / Case: 0603 (1608 metric); Factory Pack Quantity: 4000; Termination Style: SMD/SMT; Width: 0.8 mm; ComponentLink1URL: http://www.farnell.com/datasheets/2047978.pdf?src-supplier=Element14; ComponentLink1Description: http://www.farnell.com/datasheets/2047978.pdf?src-supplier=Element14
footprint CAP_0603_1MM (Chip Capacitor, 2-Leads, Body 1.60x0.80mm, IPC Medium Density)
pins: 1, 2

## HOLE_#4
designator H?, comment #4 Hole  (no BOM)
footprint HOLE_#4
pins: 1

## IND_0402
designator L?
Inductor Package 0603; MP: LQM18DN100M70L; MF: Murata Electronics; Price: None; SnapEDA_Link: https://www.snapeda.com/parts/LQM18DN100M70L/Murata/view-part/4834755/?ref=snap; Package: 0603 Murata; Availability: Unavailable; Value: *
footprint 0402_Inductor (Reference: https://www.worthingtonassembly.com/perfect-0402-footprint)
pins: 1, 2

## IND_0603
designator L?
Inductor Package 0603; MP: LQM18DN100M70L; MF: Murata Electronics; Price: None; SnapEDA_Link: https://www.snapeda.com/parts/LQM18DN100M70L/Murata/view-part/4834755/?ref=snap; Package: 0603 Murata; Availability: Unavailable; Value: *
footprint IND_0603 (Inductor Package 0603)
pins: 1, 2

## JST2PH
designator H?
Connector Header Through Hole 2 position 0.079" (2.00mm); Manufacturer: JST; Manufacturer Part Number: B2B-PH-K-S; Supplier: Digi-Key; Supplier Part Number: 455-1704-ND; RoHS: Yes; Category: Connectors; Stock: 1077617; Pricing: 1=0.19, 10=0.147, 100=0.1088, 500=0.09006, 1000=0.0788, 5000=0.06754, 10000=0.06567 (USD); ComponentLink1URL: https://datasheet.ciiva.com/6905/phseries-6905929.pdf?src-supplier=Digi-Key; ComponentLink1Description: https://datasheet.ciiva.com/6905/phseries-6905929.pdf?src-supplier=Digi-Key
footprint JST_B2B-PH-K-S(LF)(SN)
pins: 1, 2

## JST_PHR_2P_male
designator J?
2.0MM,HDR,2POS,R/A; Product_Type: Connector; Number_of_Positions: 2; MF: TE Connectivity; MP: 440055-2; Centerline_Pitch: 2 mm[.079 in]; SnapEDA_Link: https://www.snapeda.com/parts/440055-2/TE+Connectivity+AMP+Connectors/view-part/?ref=snap; Package: None; Value: *; EU_RoHS_Compliance: Compliant; Check_prices: https://www.snapeda.com/parts/440055-2/TE+Connectivity+AMP+Connectors/view-part/?ref=eda; Supplier 1: Digikey; Supplier Part Number 1: A100043-ND
footprint JST_PHR_2P_male
pins: 1, 2

## LED_green
designator LED?, comment GRN 0603
430mcd Colorless transparence 520nm Emerald 140° LED0603 Light Emitting Diodes (LED) ROHS; Manufacturer: Wurth Electronics; Manufacturer Part Number: 150060GS75000; Dynamic Catalog: 0603 Rectangle with Flat Top Chip LEDs; 3D Model: SMCW_0603.igs / SMCW_0603.stp / SMCW_0603.wrl; Color: Green; Wavelength - Peak: 515nm; Voltage - Forward (Vf) (Typ): 3.2V; Current - Test: 20mA; Lens Type: Clear; Lens Style/Size: Rectangle with Flat Top, 1.1mm x 0.7mm; Other Names: 732-4971-2; Lens Style: Clear,Flat,Rectangular; Forward Current: 30mA; Max Reverse Voltage (DC): 5V; Output Current: 10uA; Power Dissipation: 105mW; Lens Size: 0.7mm; Supplier 1: Digi-Key; Stock 1: 34964; Pricing 1: 1=0.14, 50=0.129, 100=0.11, 500=0.095 (USD); Standard Package: 4,000; Category: Optoelectronics; Family: LED Indication - Discrete; Series: WL-SMCW; Packaging: Tape & Reel (TR); Wavelength - Dominant: 520nm; Millicandela Rating: 430mcd; Viewing Angle: 140°; Package / Case: 0603 (1608 Metric); Size / Dimension: 1.60mm L x 0.80mm W; Height: 0.70mm; Mounting Type: Surface Mount; Online Catalog: 0603 Rectangle with Flat Top Chip LEDs; ComponentLink1URL: https://katalog.we-online.de/led/datasheet/150060GS75000.pdf?src-supplier=Digi-Key; ComponentLink1Description: https://katalog.we-online.de/led/datasheet/150060GS75000.pdf?src-supplier=Digi-Key; ComponentLink2URL: http://www.produktinfo.conrad.com/datenblaetter/750000-774999/759427-da-01-en-CHIPLED_0603_W_KL_GRUEN_150060GS75000.pdf?src-supplier=Conrad; ComponentLink2Description: http://www.produktinfo.conrad.com/datenblaetter/750000-774999/759427-da-01-en-CHIPLED_0603_W_KL_GRUEN_150060GS75000.pdf?src-supplier=Conrad; Supplier Part Number 1: 732-4971-1-ND; Supplier: Digikey; Supplier Part Number: 732-4971-1-ND; RoHS: Yes; Stock: 122246; Pricing: 1=0.15, 50=0.142, 100=0.122, 500=0.105 (USD); Mounting Technology: Surface Mount; Case/Package: 0603; Case Code (Metric): 1608; Case Code (Imperial): 0603; Lens Color: Colorless; Min Operating Temperature: -40°C; Max Operating Temperature: 85°C; Wavelength: 520nm; Package Quantity: 1; Luminous Intensity: 430mcd; Forward Voltage: 3.2V; Dominant Wavelength: 520nm; Test Current: 20mA; Lens Transparency: Clear; Reverse Voltage: 5V; Length: 1.6mm; Width: 0.8mm; Lead Free: Lead Free; RoHS Compliant: Yes; Reach SVHC Compliant: Unknown; ComponentLink3URL: https://datasheet.ciiva.com/29562/150060gs75000-29562868.pdf?src-supplier=Digikey; ComponentLink3Description: https://datasheet.ciiva.com/29562/150060gs75000-29562868.pdf?src-supplier=Digikey; ComponentLink4URL: https://datasheet.ciiva.com/29279/759427-da-01-en-chipled-0603-w-kl-gruen-150060gs75000-29279201.pdf?src-supplier=Conrad; ComponentLink4Description: https://datasheet.ciiva.com/29279/759427-da-01-en-chipled-0603-w-kl-gruen-150060gs75000-29279201.pdf?src-supplier=Conrad; ComponentLink5URL: https://datasheet.ciiva.com/29562/150060gs75000-29562869.pdf?src-supplier=Digikey; ComponentLink5Description: https://datasheet.ciiva.com/29562/150060gs75000-29562869.pdf?src-supplier=Digikey; ComponentLink6URL: https://datasheet.ciiva.com/29562/150060gs75000-29562870.pdf?src-supplier=Digikey; ComponentLink6Description: https://datasheet.ciiva.com/29562/150060gs75000-29562870.pdf?src-supplier=Digikey
footprint LED_0603_GRN_WL-SMCW (SODFL, 2-Leads, Body 0.80x1.80mm, IPC Medium Density)
pins: A, C
text: G

## LM2750SD-5.0
designator U?
Voltage Regulators - Switching Regulators Reg Switch Capacitor Boost Reg; Manufacturer: TI National Semiconductor; Manufacturer Part Number: LM2750SD-5.0/NOPB; MP: LM2750SD-5-0; Output Voltage: 5V; Number of Outputs: 1; Output Current: 120mA; Frequency: 1.7MHz; Max Supply Voltage: 5.6V; Min Supply Voltage: 2.7V; Efficiency: 87%; Operating Supply Current: 5mA; Min Output Voltage: 4.8V; Output Type: Fixed; Package: None; Price: None; Value: *; Availability: Unavailable; Supplier 1: Digikey; Supplier Part Number 1: LM2750SD-5.0/NOPBCT-ND; Supplier: Digikey; Supplier Part Number: LM2750SD-5.0/NOPBCT-ND; RoHS: Yes; Category: Voltage Regulators - Switching; Stock: 1468; Pricing: 1=2.34, 10=1.674, 25=1.5068, 100=1.3227, 250=1.23504, 500=1.18214 (USD); Mounting Technology: Surface Mount; Pins: 10; Min Operating Temperature: -40°C; Max Operating Temperature: 85°C; Packaging: Tape and Reel; Max Output current: 120mA; Min Input Voltage: 2.7V; Switching Frequency: 1.7MHz; Nominal Output Voltage: 5V; Max Output Voltage: 5V; Termination: SMD/SMT; Quiescent Current: 5mA; Topology: Boost; Series: LM2750; Length: 3mm; Width: 3mm; Height: 0.8mm; Thickness: 750um; Radiation Hardening: No; Reach SVHC Compliant: No; Lead Free: Lead Free; RoHS Compliant: Yes; ComponentLink1URL: https://datasheet.ciiva.com/5699/1781827-5699312.pdf?src-supplier=Farnell; ComponentLink1Description: https://datasheet.ciiva.com/5699/1781827-5699312.pdf?src-supplier=Farnell; ComponentLink2URL: https://datasheet.ciiva.com/6598/lm2750-6598374.pdf?src-supplier=Digikey; ComponentLink2Description: https://datasheet.ciiva.com/6598/lm2750-6598374.pdf?src-supplier=Digikey; ComponentLink3URL: https://datasheet.ciiva.com/7994/59930-7994364.pdf?src-supplier=Element14; ComponentLink3Description: https://datasheet.ciiva.com/7994/59930-7994364.pdf?src-supplier=Element14
footprint LM2750_DFN300X300X80-11N
pins: 1 VOUT_2, 2 VOUT (out), 3 FB, 4 ~SD, 5 GND, 6 GND, 7 CAP-, 8 VIN_2 (in), 9 VIN (in), 10 CAP+ (out), 11 GND

## LPS4018-103MRB
designator L?
Power inductor, shielded, 20/30% tol, SMT, RoHS, lead-free, halogen-free; MF: Coilcraft; MP: LPS4018-103MRB; SnapEDA_Link: https://www.snapeda.com/parts/LPS4018-103MRB/Coilcraft/view-part/?ref=snap; Package: None; Value: *; Check_prices: https://www.snapeda.com/parts/LPS4018-103MRB/Coilcraft/view-part/?ref=eda
footprint IND_LPS4018-103MRB
pins: 1, 2

## LQM18DN100M70L
designator L?
Inductor with Inductance 10uH Tol.+/-20% Package 0603 (1608); MP: LQM18DN100M70L; MF: Murata Electronics; Price: None; SnapEDA_Link: https://www.snapeda.com/parts/LQM18DN100M70L/Murata/view-part/4834755/?ref=snap; Package: 0603 Murata; Availability: Unavailable; Value: *
footprint INDC1608X95N
pins: 1, 2

## OPT3001DNPR
designator U?
Digital ambient light sensor (ALS) with high-precision human-eye response 6-USON -40 to 85; Manufacturer: Texas Instruments; Manufacturer Part Number: OPT3001DNPR; Interface: I2C; Wavelength: 550nm; Min Supply Voltage: 1.6V; Max Supply Voltage: 3.6V; Clock Frequency: 2.6MHz; Output Type: I2C,Digital; Sensing Method: Optical; Supplier: Digikey; Supplier Part Number: 296-40474-1-ND; RoHS: Yes; Category: Integrated Circuits (ICs); Stock: 51147; Pricing: 1=2.99, 5=2.52, 10=2.342, 25=2.1248, 50=1.9744, 100=1.8347, 500=1.54766, 1000=1.43839 (USD); Mounting Technology: Surface Mount; Pins: 6; Min Operating Temperature: -40°C; Max Operating Temperature: 85°C; Packaging: Tape and Reel; Series: -; Reach SVHC Compliant: No; Lead Free: Lead Free; RoHS Compliant: Yes; ComponentLink1URL: http://www.ti.com/lit/ds/symlink/opt3001.pdf?src-supplier=Digikey; ComponentLink1Description: http://www.ti.com/lit/ds/symlink/opt3001.pdf?src-supplier=Digikey; ComponentLink2URL: http://www.ti.com/general/docs/lit/getliterature.tsp?genericPartNumber=OPT3001&amp;&amp;fileType=pdf&src-supplier=Farnell; ComponentLink2Description: http://www.ti.com/general/docs/lit/getliterature.tsp?genericPartNumber=OPT3001&amp;&amp;fileType=pdf&src-supplier=Farnell; ComponentLink3URL: http://www.ti.com/general/docs/lit/getliterature.tsp?genericPartNumber=OPT3001&&fileType=pdf&src-supplier=Avnet; ComponentLink3Description: http://www.ti.com/general/docs/lit/getliterature.tsp?genericPartNumber=OPT3001&&fileType=pdf&src-supplier=Avnet; ComponentLink4URL: http://www.ti.com/general/docs/lit/getliterature.tsp?genericPartNumber=OPT3001&&fileType=pdf&src-supplier=Element14; ComponentLink4Description: http://www.ti.com/general/docs/lit/getliterature.tsp?genericPartNumber=OPT3001&&fileType=pdf&src-supplier=Element14
footprint OPT3001-SON127P600-8N (SENSOR OPT 550NM AMBIENT 6 UDFN)
pins: 1 VDD (power) "Device power. Connect to a 1.6-V to 3.6-V supply.", 2 ADDR (in) "Address pin. This pin sets the LSBs of the I 2C address", 3 GND (power) "Ground", 4 SCL (in) "I 2C clock. Connect with a 10-kΩ resistor to a 1.6-V to 5.5-V supply", 5 INT (out) "Interrupt output open-drain. Connect with a 10-kΩ resistor to a 1.6-V to 5.5-V supply.", 6 SDA (io) "I 2C data. Connect with a 10-kΩ resistor to a 1.6-V to 5.5-V supply.", 7 GND

## OPT3007YMFR
designator U?
Ultra-thin ambient light sensor (ALS) with fixed I2C address 6-PICOSTAR -40 to 85; MP: OPT3007YMFR; MF: Texas Instruments; Wavelength: 550nm; Value: *; Package: PICOSTAR-6 Texas Instruments; Check_prices: https://www.snapeda.com/parts/OPT3007YMFR/Texas+Instruments/view-part/?ref=eda; Price: None; Purchase-URL: https://pricing.snapeda.com/search/part/OPT3007YMFR/?ref=eda; SnapEDA_Link: https://www.snapeda.com/parts/OPT3007YMFR/Texas+Instruments/view-part/?ref=snap; Availability: In Stock; Supplier 1: Digikey; Supplier Part Number 1: 296-50382-1-ND; Supplier: Digikey; Supplier Part Number: 296-50382-1-ND; Manufacturer: Texas Instruments; Manufacturer Part Number: OPT3007YMFR; RoHS: Yes; Category: Integrated Circuits (ICs); Stock: 6062; Pricing: 1=2.08, 5=1.756, 10=1.631, 25=1.48, 50=1.3752, 100=1.2779, 500=1.07792, 1000=1.00179 (USD); Mounting Technology: Surface Mount; Pins: 6; Min Operating Temperature: -40°C; Max Operating Temperature: 85°C; Interface: I2C; Output Type: I2C; Series: -; Packaging: Cut Tape; RoHS Compliant: Yes; ComponentLink1URL: http://www.ti.com/general/docs/suppproductinfo.tsp?distId=10&amp;gotoUrl=http%3A%2F%2Fwww.ti.com%2Flit%2Fgpn%2Fopt3007&src-supplier=Digikey; ComponentLink1Description: http://www.ti.com/general/docs/suppproductinfo.tsp?distId=10&amp;gotoUrl=http%3A%2F%2Fwww.ti.com%2Flit%2Fgpn%2Fopt3007&src-supplier=Digikey
footprint BGA6N60X35P2X3_85X94X22N
pins: A1 GND (power), A2 SCL (in), C1 VDD (power), C2 SDA (io)

## OSC_32.768KHz
designator Y?
Tuning Fork Crystal 32.768kHz in 1.2 x 2.0mm package; MF: Micro Crystal; MP: CM8V-T1A-32.768KHZ-7PF-20PPM-TA-QC; Package: SMD-2 Micro Crystal; Price: None; Value: *; SnapEDA_Link: https://www.snapeda.com/parts/CM8V-T1A-32.768KHZ-7PF-20PPM-TA-QC/Micro+Crystal/view-part/?ref=snap; Availability: Not in stock; Check_prices: https://www.snapeda.com/parts/CM8V-T1A-32.768KHZ-7PF-20PPM-TA-QC/Micro+Crystal/view-part/?ref=eda; Supplier 1: Digikey; Supplier Part Number 1: 2195-CM8V-T1A-32.768KHZ-7PF-20PPM-TA-QCCT-ND
footprint OSC_32.768KHz (Tuning Fork Crystal 32.768kHz in 1.2 x 2.0mm package)
pins: 1, 2

## OSC_38.4MHz
designator Y?
38.4 MHz ±10ppm Crystal 10pF 40 Ohms 4-SMD, No Lead; MF: {'manufacturer': u'Murata Electronics'}; MP: XRCGB38M400F2P00R0; Package: None; Price: None; Value: *; Availability: Unavailable; Supplier 1: Digikey; Supplier Part Number 1: 4606-TZ3398BCT-ND
footprint OSC_38.4MHz (38.4 MHz ±10ppm Crystal 10pF 40 Ohms 4-SMD, No Lead)
pins: 1, 2, 3, 4

## PRPC002SAAN-RC
designator H?, comment 0.1" M Header
CONN HEADER VERT 2POS 2.54MM; Manufacturer: Sullins; Manufacturer Part Number: PRPC002SAAN-RC; Connector Type: Header, Unshrouded, Breakaway; Number of Positions: 2; Number of Positions Loaded: All; Pitch: 0.100" (2.54mm); Online Catalog: 0.100" (2.54mm) Pitch Connector Headers; Other Names: S9510E-02  S9510E-02-ND; Supplier 1: Digi-Key; Stock 1: 42739; Pricing 1: 1=0.08, 10=0.073, 25=0.054, 50=0.0464, 100=0.0449, 250=0.0387, 500=0.0372 (USD); Standard Package: 1; Category: Connectors, Interconnects; Family: Rectangular Connectors - Headers, Male Pins; Series: -; Packaging: Bulk; Contact Type: Male Pin; Number of Rows: 1; Row Spacing: -; Contact Mating Length: 0.230" (5.84mm); Mounting Type: Through Hole; Termination: Solder; Fastening Type: -; Features: -; Contact Finish: Gold; Contact Finish Thickness: Flash; Color: Black; ComponentLink1URL: https://media.digikey.com/PDF/Data%20Sheets/Sullins%20PDFs/xRxCzzzSxxN-RC_ST_11635-B.pdf?src-supplier=Digi-Key; ComponentLink1Description: https://media.digikey.com/PDF/Data%20Sheets/Sullins%20PDFs/xRxCzzzSxxN-RC_ST_11635-B.pdf?src-supplier=Digi-Key; Supplier Part Number 1: S1011EC-02-ND
footprint 2-PIN_MALE_HEADER_01-IN (Terminal Assembly, 1x2 Pins, Vertical, 2.54mm Pitch, Male)
pins: 1, 2

## PRPC003DAAN-RC
designator H?, comment 0.1" M Header
CONN HEADER Dual 6POS 2.54MM; Manufacturer: Sullins; Manufacturer Part Number: PRPC003DAAN-RC; Connector Type: Header, Unshrouded, Breakaway; Number of Positions: 6; Number of Positions Loaded: All; Pitch: 0.100" (2.54mm); Online Catalog: 0.100" (2.54mm) Pitch Connector Headers; Other Names: S9511E-03  S9511E-03-ND; Supplier 1: Digi-Key; Stock 1: 4304; Pricing 1: 1=0.19, 10=0.174, 25=0.1488, 50=0.13, 100=0.1207, 250=0.1068, 500=0.1022 (USD); Standard Package: 1; Category: Connectors, Interconnects; Family: Rectangular Connectors - Headers, Male Pins; Series: -; Packaging: Bulk; Contact Type: Male Pin; Number of Rows: 2; Row Spacing: 0.100" (2.54mm); Contact Mating Length: 0.230" (5.84mm); Mounting Type: Through Hole; Termination: Solder; Fastening Type: -; Features: -; Contact Finish: Gold; Contact Finish Thickness: Flash; Color: Black; ComponentLink1URL: https://drawings-pdf.s3.amazonaws.com/11636.pdf?src-supplier=Digi-Key; ComponentLink1Description: https://drawings-pdf.s3.amazonaws.com/11636.pdf?src-supplier=Digi-Key; Supplier Part Number 1: S2011EC-03-ND
footprint 6-PIN_DUAL_MALE_HEADER_01-IN (Terminal Assembly, 2x3 Pins, Vertical, 2.54mm Pitch, Male)
pins: 1, 2, 3, 4, 5, 6

## PRPC003SAAN-RC
designator H?, comment 0.1" Header
CONN HEADER VERT 3POS 2.54MM; Manufacturer: Sullins; Manufacturer Part Number: PRPC003SAAN-RC; Connector Type: Header, Unshrouded, Breakaway; Number of Positions: 3; Number of Positions Loaded: All; Pitch: 0.100" (2.54mm); Online Catalog: 0.100" (2.54mm) Pitch Connector Headers; Other Names: S9510E-03  S9510E-03-ND; Supplier 1: Digi-Key; Stock 1: 19067; Pricing 1: 1=0.12, 10=0.109, 25=0.0812, 50=0.0696, 100=0.0673, 250=0.058, 500=0.0557 (USD); Standard Package: 1; Category: Connectors, Interconnects; Family: Rectangular Connectors - Headers, Male Pins; Series: -; Packaging: Bulk; Contact Type: Male Pin; Number of Rows: 1; Row Spacing: -; Contact Mating Length: 0.230" (5.84mm); Mounting Type: Through Hole; Termination: Solder; Fastening Type: -; Features: -; Contact Finish: Gold; Contact Finish Thickness: Flash; Color: Black; ComponentLink1URL: https://media.digikey.com/PDF/Data%20Sheets/Sullins%20PDFs/xRxCzzzSxxN-RC_ST_11635-B.pdf?src-supplier=Digi-Key; ComponentLink1Description: https://media.digikey.com/PDF/Data%20Sheets/Sullins%20PDFs/xRxCzzzSxxN-RC_ST_11635-B.pdf?src-supplier=Digi-Key; Supplier Part Number 1: S1011EC-03-ND
footprint 3-PIN_MALE_HEADER_01-IN (.025 SQ Post Terminal Strip Assembly, 1x3 Pins, Vertical, 2.54mm Pitch, Male)
pins: 1, 2, 3

## PRPC003SAAN-RC_1
designator H?, comment 0.1" M Header
CONN HEADER VERT 3POS 2.54MM; Manufacturer: Sullins; Manufacturer Part Number: PRPC003SAAN-RC; Connector Type: Header, Unshrouded, Breakaway; Number of Positions: 3; Number of Positions Loaded: All; Pitch: 0.100" (2.54mm); Online Catalog: 0.100" (2.54mm) Pitch Connector Headers; Other Names: S9510E-03  S9510E-03-ND; Supplier 1: Digi-Key; Stock 1: 19067; Pricing 1: 1=0.12, 10=0.109, 25=0.0812, 50=0.0696, 100=0.0673, 250=0.058, 500=0.0557 (USD); Standard Package: 1; Category: Connectors, Interconnects; Family: Rectangular Connectors - Headers, Male Pins; Series: -; Packaging: Bulk; Contact Type: Male Pin; Number of Rows: 1; Row Spacing: -; Contact Mating Length: 0.230" (5.84mm); Mounting Type: Through Hole; Termination: Solder; Fastening Type: -; Features: -; Contact Finish: Gold; Contact Finish Thickness: Flash; Color: Black; ComponentLink1URL: https://media.digikey.com/PDF/Data%20Sheets/Sullins%20PDFs/xRxCzzzSxxN-RC_ST_11635-B.pdf?src-supplier=Digi-Key; ComponentLink1Description: https://media.digikey.com/PDF/Data%20Sheets/Sullins%20PDFs/xRxCzzzSxxN-RC_ST_11635-B.pdf?src-supplier=Digi-Key; Supplier Part Number 1: S1011EC-03-ND
footprint 3-PIN_MALE_HEADER_01-IN (.025 SQ Post Terminal Strip Assembly, 1x3 Pins, Vertical, 2.54mm Pitch, Male)
pins: 1, 2, 3

## PRPC004DAAN-RC
designator H?, comment 0.1" M Header
CONN HEADER DUAL 8POS 2.54MM; Manufacturer: Sullins; Manufacturer Part Number: PRPC004DAAN-RC; Connector Type: Header, Unshrouded, Breakaway; Number of Positions: 8; Number of Positions Loaded: All; Pitch: 0.100" (2.54mm); Online Catalog: 0.100" (2.54mm) Pitch Connector Headers; Other Names: S9511E-04  S9511E-04-ND; Supplier 1: Digi-Key; Stock 1: 4816; Pricing 1: 1=0.25, 10=0.232, 25=0.198, 50=0.1734, 100=0.161, 250=0.1424, 500=0.1362 (USD); Standard Package: 1; Category: Connectors, Interconnects; Family: Rectangular Connectors - Headers, Male Pins; Series: -; Packaging: Bulk; Contact Type: Male Pin; Number of Rows: 2; Row Spacing: 0.100" (2.54mm); Contact Mating Length: 0.230" (5.84mm); Mounting Type: Through Hole; Termination: Solder; Fastening Type: -; Features: -; Contact Finish: Gold; Contact Finish Thickness: Flash; Color: Black; ComponentLink1URL: https://s3.amazonaws.com/catalogspreads-pdf/PAGE110-111%20.100%20MALE%20HDR%20ST.pdf?src-supplier=Digi-Key; ComponentLink1Description: https://s3.amazonaws.com/catalogspreads-pdf/PAGE110-111%20.100%20MALE%20HDR%20ST.pdf?src-supplier=Digi-Key; Supplier Part Number 1: S2011EC-04-ND
footprint 8-PIN_DUAL_MALE_HEADER_01-IN (Assembly .025" [.64] SQ Post Terminal Strip, 2x4 Pins, Vertical, 2.54mm Pitch, Male)
pins: 1, 2, 3, 4, 5, 6, 7, 8

## PRPC004SAAN-RC
designator H?, comment 0.1" M Header
CONN HEADER VERT 4POS 2.54MM; Manufacturer: Sullins; Manufacturer Part Number: PRPC004SAAN-RC; Connector Type: Header, Unshrouded, Breakaway; Number of Positions: 4; Number of Positions Loaded: All; Pitch: 0.100" (2.54mm); Online Catalog: 0.100" (2.54mm) Pitch Connector Headers; Other Names: S9510E-04  S9510E-04-ND; Supplier 1: Digi-Key; Stock 1: 6306; Pricing 1: 1=0.15, 10=0.146, 25=0.1084, 50=0.0928, 100=0.0898, 250=0.0774, 500=0.0743 (USD); Standard Package: 1; Category: Connectors, Interconnects; Family: Rectangular Connectors - Headers, Male Pins; Series: -; Packaging: Bulk; Contact Type: Male Pin; Number of Rows: 1; Row Spacing: -; Contact Mating Length: 0.230" (5.84mm); Mounting Type: Through Hole; Termination: Solder; Fastening Type: -; Features: -; Contact Finish: Gold; Contact Finish Thickness: Flash; Color: Black; ComponentLink1URL: https://media.digikey.com/PDF/Data%20Sheets/Sullins%20PDFs/xRxCzzzSxxN-RC_ST_11635-B.pdf?src-supplier=Digi-Key; ComponentLink1Description: https://media.digikey.com/PDF/Data%20Sheets/Sullins%20PDFs/xRxCzzzSxxN-RC_ST_11635-B.pdf?src-supplier=Digi-Key; Supplier Part Number 1: S1011EC-04-ND
footprint 4-PIN_MALE_HEADER_01-IN (Assembly .025" [.64] SQ Post Terminal Strip, 1x4 Pins, Vertical, 2.54mm Pitch, Male)
pins: 1, 2, 3, 4

## PRPC005SAAN-RC
designator H?, comment 0.1" M Header
CONN HEADER VERT 5POS 2.54MM; Manufacturer: Sullins; Manufacturer Part Number: PRPC005SAAN-RC; Connector Type: Header, Unshrouded, Breakaway; Number of Positions: 5; Number of Positions Loaded: All; Pitch: 0.100" (2.54mm); Online Catalog: 0.100" (2.54mm) Pitch Connector Headers; Other Names: S9510E-05  S9510E-05-ND; Supplier 1: Digi-Key; Stock 1: 9728; Pricing 1: 1=0.19, 10=0.182, 25=0.1356, 50=0.1162, 100=0.1122, 250=0.0968, 500=0.0929 (USD); Standard Package: 1; Category: Connectors, Interconnects; Family: Rectangular Connectors - Headers, Male Pins; Series: -; Packaging: Bulk; Contact Type: Male Pin; Number of Rows: 1; Row Spacing: -; Contact Mating Length: 0.230" (5.84mm); Mounting Type: Through Hole; Termination: Solder; Fastening Type: -; Features: -; Contact Finish: Gold; Contact Finish Thickness: Flash; Color: Black; ComponentLink1URL: https://media.digikey.com/PDF/Data%20Sheets/Sullins%20PDFs/xRxCzzzSxxN-RC_ST_11635-B.pdf?src-supplier=Digi-Key; ComponentLink1Description: https://media.digikey.com/PDF/Data%20Sheets/Sullins%20PDFs/xRxCzzzSxxN-RC_ST_11635-B.pdf?src-supplier=Digi-Key; Supplier Part Number 1: S1011EC-05-ND
footprint 5-PIN_MALE_HEADER_01-IN (Press Fit Socket Assembly, 1x5 Pins, Vertical, 2.54mm Pitch, Male)
pins: 1, 2, 3, 4, 5